# EAGLE library part OPA847 (library opamps)
OPA847: Wideband opamp with disable (Burr-Brown) ±5V, ±52mA, 42uA bias 600µV offset, 3.9GHz GBW, 1nV/rt(Hz) noise
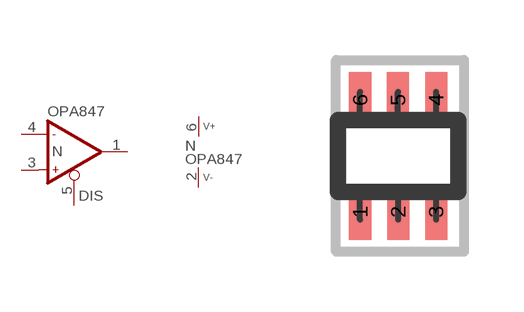
[diagram p280: symbol with the pads of SOT23-6; footprint SOT23-6]

Designator prefix N; gates G=OP_DIS P=V+-

## OPA847  [SOT23-6]
1  G:OUT  out
2  P:V-  pwr
3  G:IN+  in
4  G:IN-  in
5  G:DIS  in
6  P:V+  pwr

## Footprint SOT23-6 (pad centres in mm)
SOT23-6 SMD package SOT23, 6 pins
smd 0.55 x 1.4: 1 -0.95,-1.4; 2 0,-1.4; 3 0.95,-1.4; 4 0.95,1.4; 5 -0.003,1.4; 6 -0.95,1.4